# Altium schematic symbol library R0402.SchLib: 1 symbol
Pins are listed as number, name and electrical type; pins without a type are passive.

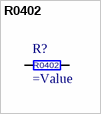
[diagram p0: symbol R0402]

## R0402
designator R?
pins: 1, 2